# Altium footprint library Common.PcbLib: 69 footprints (part 4 of 5)
Each footprint in its own frame and in the unit in brackets; x right, y up, seen from the top. Pads: shape width x height; smd on the part's side, far side on the other; paste and mask are expansions set on the pad; w line width, h text height; cw(c..) or ccw(c..) is an arc to the next point about the centre after c.
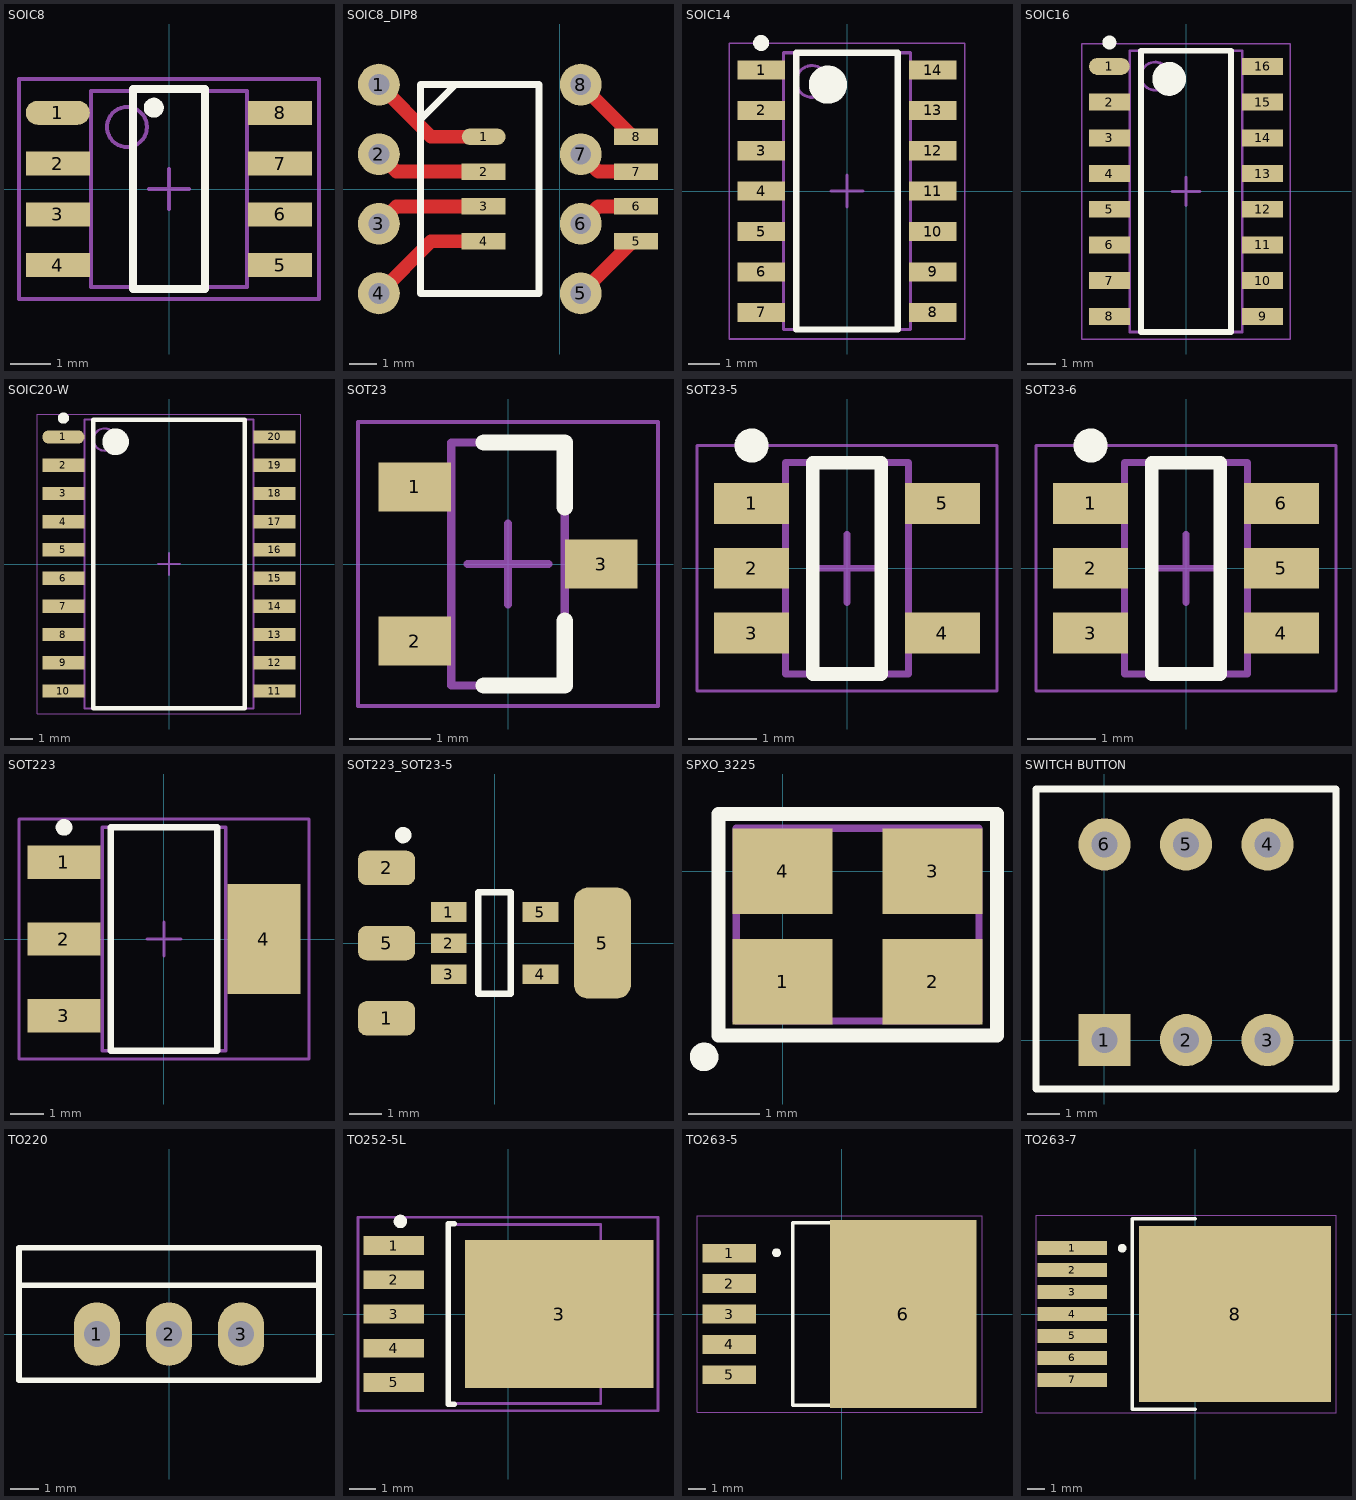
[diagram p3: the footprints below, top view; thin cyan lines are the x and y axes]

## SOIC8 [mm] "SOIC, 8-Leads, Body 4.9x3.9mm, Pitch 1.27mm, IPC Medium Density"
height 1.75
pads (8):
  oval 1.6x0.6 smd: 1(-2.781,1.905)
  rect 1.6x0.6 smd: 2(-2.781,0.635) 3(-2.781,-0.635) 4(-2.781,-1.905) 5(2.781,-1.905) 6(2.781,-0.635) 7(2.781,0.635) 8(2.781,1.905)
Top Overlay:
  circle w0.25: c-0.381,2.032 r0.125
  lines w0.2: -0.9,-2.5 -0.9,2.5 0.9,2.5 0.9,-2.5 -0.9,-2.5
Mechanical 13:
  circle w0.1: c-1.05,1.55 r0.5
  lines w0.1: -1.95,-2.45 -1.95,2.45 1.95,2.45 1.95,-2.45 -1.95,-2.45
Mechanical 15:
  lines w0.1: -0.5,0 0.5,0 ; 0,-0.5 0,0.5 ; -3.75,-2.75 -3.75,2.75 3.75,2.75 3.75,-2.75 -3.75,-2.75
3D body: height 1.75, standoff 0, extent -3,-2.45 3,2.45

## SOIC8_DIP8 [mil] "SOIC, 8-Leads, Body 4.9x3.9mm, Pitch 1.27mm, IPC Medium Density"
height 68.9
pads (16):
  round 60 hole 30: 1(-260,150) 2(-260,50) 3(-260,-50) 4(-260,-150) 5(30,-150) 6(30,-50) 7(30,50) 8(30,150)
  oval 62.99x23.62 smd: 1(-109.49,75)
  rect 62.99x23.62 smd: 2(-109.49,25) 3(-109.49,-25) 4(-109.49,-75) 5(109.49,-75) 6(109.49,-25) 7(109.49,25) 8(109.49,75)
Top Layer:
  lines w11.81: 105,-75 109.49,-75 ; 105,75 109.49,75
  lines w19.68: -260,-150 -185,-75 -109.49,-75 ; -260,-50 -235,-25 -109.49,-25 ; -260,50 -235,25 -109.49,25 ; -260,150 -185,75 -109.49,75 ; 30,-150 105,-75 109.49,-75 ; 30,-50 55,-25 109.49,-25 ; 30,50 55,25 109.49,25 ; 30,150 105,75 109.49,75
Top Overlay:
  lines w10: -200,100 -150,150 ; -200,-150 -200,150 -30,150 -30,-150 -200,-150
3D body: height 200, standoff -137.8, extent -270.47,-211.02 39.37,218.9

## SOIC14 [mm]
height 1.73
pads (14):
  rect 1.5x0.6 smd: 1(-2.7,3.81) 2(-2.7,2.54) 3(-2.7,1.27) 4(-2.7,0) 5(-2.7,-1.27) 6(-2.7,-2.54) 7(-2.7,-3.81) 8(2.7,-3.81) 9(2.7,-2.54) 10(2.7,-1.27) 11(2.7,0) 12(2.7,1.27) 13(2.7,2.54) 14(2.7,3.81)
Top Overlay:
  circle w0.25: c-2.7,4.66 r0.125
  circle w0.6: c-0.6,3.35 r0.3
  lines w0.2: -1.6,-4.35 -1.6,4.35 1.6,4.35 1.6,-4.35 -1.6,-4.35
Mechanical 13:
  circle w0.1: c-1.1,3.45 r0.5
  lines w0.1: -2,-4.35 -2,4.35 2,4.35 2,-4.35 -2,-4.35
Mechanical 15:
  lines w0.05: -3.7,-4.65 -3.7,4.65 3.7,4.65 3.7,-4.65 -3.7,-4.65
  lines w0.1: -0.5,0 0.5,0 ; 0,-0.5 0,0.5
3D body: height 1.75, standoff 0, extent -3,-4.248 2.8,4.302

## SOIC16 [mm] "SOIC, 16-Leads, Body 9.90x3.90mm, Pitch 1.27mm, IPC Medium Density"
height 1.75
pads (16):
  oval 1.45x0.6 smd: 1(-2.725,4.445)
  rect 1.45x0.6 smd: 2(-2.725,3.175) 3(-2.725,1.905) 4(-2.725,0.635) 5(-2.725,-0.635) 6(-2.725,-1.905) 7(-2.725,-3.175) 8(-2.725,-4.445) 9(2.725,-4.445) 10(2.725,-3.175) 11(2.725,-1.905) 12(2.725,-0.635) 13(2.725,0.635) 14(2.725,1.905) 15(2.725,3.175) 16(2.725,4.445)
Top Overlay:
  circle w0.25: c-2.725,5.295 r0.125
  circle w0.6: c-0.6,4 r0.3
  lines w0.2: -1.6,-5 -1.6,5 1.6,5 1.6,-5 -1.6,-5
Mechanical 13:
  circle w0.1: c-1.1,4.1 r0.5
  lines w0.1: -2,-5 -2,5 2,5 2,-5 -2,-5
Mechanical 15:
  lines w0.05: -3.7,-5.25 -3.7,5.25 3.7,5.25 3.7,-5.25 -3.7,-5.25
  lines w0.1: -0.5,0 0.5,0 ; 0,-0.5 0,0.5
3D body: height 1.4, standoff 0, extent -3.048,-4.95 2.952,4.95

## SOIC20-W [mm]
height 2.65
pads (20):
  oval 1.9x0.6 smd: 1(-4.75,5.715)
  rect 1.9x0.6 smd: 2(-4.75,4.445) 3(-4.75,3.175) 4(-4.75,1.905) 5(-4.75,0.635) 6(-4.75,-0.635) 7(-4.75,-1.905) 8(-4.75,-3.175) 9(-4.75,-4.445) 10(-4.75,-5.715) 11(4.75,-5.715) 12(4.75,-4.445) 13(4.75,-3.175) 14(4.75,-1.905) 15(4.75,-0.635) 16(4.75,0.635) 17(4.75,1.905) 18(4.75,3.175) 19(4.75,4.445) 20(4.75,5.715)
Top Overlay:
  circle w0.6: c-2.4,5.5 r0.3
  circle w0.25: c-4.75,6.565 r0.125
  lines w0.2: -3.4,-6.5 3.4,-6.5 3.4,6.5 -3.4,6.5 -3.4,-6.5
Mechanical 13:
  circle w0.1: c-2.9,5.6 r0.5
  lines w0.1: -3.8,-6.5 3.8,-6.5 3.8,6.5 -3.8,6.5 -3.8,-6.5
Mechanical 15:
  lines w0.05: -5.925,-6.75 5.925,-6.75 5.925,6.75 -5.925,6.75 -5.925,-6.75
  lines w0.1: -0.5,0 0.5,0 ; 0,-0.5 0,0.5
3D body: height 2.7, standoff 0, extent -5.15,-6.4 5.15,6.4

## SOT23 [mm] "SOT23, 3-Leads, Body 2.90x2.30mm, Pitch 0.95mm, IPC Medium Density"
height 1.1
pads (3):
  rect 0.9x0.6 smd: 1(-1.15,0.95) 2(-1.15,-0.95) 3(1.15,0)
Top Overlay:
  lines w0.2: -0.3,-1.5 0.7,-1.5 0.7,-0.7 ; -0.3,1.5 0.7,1.5 0.7,0.7
Mechanical 13:
  lines w0.1: -0.7,-1.5 -0.7,1.5 0.7,1.5 0.7,-1.5 -0.7,-1.5
Mechanical 15:
  lines w0.05: -1.85,-1.75 -1.85,1.75 1.85,1.75 1.85,-1.75 -1.85,-1.75
  lines w0.1: -0.5,0 0.5,0 ; 0,-0.5 0,0.5
3D body: height 1.1, standoff 0.05, extent -0.7,-1.5 0.7,1.5

## SOT23-5 [mm]
height 1.45
pads (5):
  rect 1.1x0.6 smd: 1(-1.4,0.95) 2(-1.4,0) 3(-1.4,-0.95) 4(1.4,-0.95) 5(1.4,0.95)
Top Overlay:
  circle w0.25: c-1.4,1.8 r0.125
  lines w0.2: -0.5,-1.55 -0.5,1.55 0.5,1.55 0.5,-1.55 -0.5,-1.55
Mechanical 13:
  lines w0.1: -0.9,-1.55 0.9,-1.55 0.9,1.55 -0.9,1.55 -0.9,-1.55
Mechanical 15:
  lines w0.05: -2.2,-1.8 2.2,-1.8 2.2,1.8 -2.2,1.8 -2.2,-1.8
  lines w0.1: -0.5,0 0.5,0 ; 0,-0.5 0,0.5
3D body: height 1.45, standoff 0, extent -1.4,-1.45 1.4,1.45

## SOT23-6 [mm]
height 1.45
pads (6):
  rect 1.1x0.6 smd: 1(-1.4,0.95) 2(-1.4,0) 3(-1.4,-0.95) 4(1.4,-0.95) 5(1.4,0) 6(1.4,0.95)
Top Overlay:
  circle w0.25: c-1.4,1.8 r0.125
  lines w0.2: -0.5,-1.55 0.5,-1.55 0.5,1.55 -0.5,1.55 -0.5,-1.55
Mechanical 13:
  lines w0.1: -0.9,-1.55 -0.9,1.55 0.9,1.55 0.9,-1.55 -0.9,-1.55
Mechanical 15:
  lines w0.05: -2.2,-1.8 -2.2,1.8 2.2,1.8 2.2,-1.8 -2.2,-1.8
  lines w0.1: -0.5,0 0.5,0 ; 0,-0.5 0,0.5
3D body: height 1.45, standoff 0, extent -1.4,-1.45 1.4,1.45

## SOT223 [mm]
height 1.8
pads (4):
  rect 2.2x1 smd: 1(-3,2.3) 2(-3,0) 3(-3,-2.3)
  rect 2.2x3.3 smd: 4(3,0)
Top Overlay:
  circle w0.25: c-3,3.35 r0.125
  lines w0.2: -1.6,-3.35 1.6,-3.35 1.6,3.35 -1.6,3.35 -1.6,-3.35
Mechanical 13:
  lines w0.1: -1.85,-3.35 1.85,-3.35 1.85,3.35 -1.85,3.35 -1.85,-3.35
Mechanical 15:
  lines w0.1: -0.5,0 0.5,0 ; 0,-0.5 0,0.5 ; -4.35,-3.6 4.35,-3.6 4.35,3.6 -4.35,3.6 -4.35,-3.6
3D body: height 1.8, standoff 0, extent -1.85,-3.35 1.85,3.35

## SOT223_SOT23-5 [mm]
height 1.45
pads (9):
  rrect50% 1.75x1.05 smd: 1(-3.3,-2.3) 2(-3.3,2.3) 5(-3.3,0)
  rect 1.1x0.6 smd: 1(-1.4,0.95) 2(-1.4,0) 3(-1.4,-0.95) 4(1.4,-0.95) 5(1.4,0.95)
  rrect50% 1.75x3.4 smd: 5(3.3,0)
Top Overlay:
  circle w0.25: c-2.794,3.302 r0.125
  lines w0.2: -0.5,-1.55 0.5,-1.55 0.5,1.55 -0.5,1.55 -0.5,-1.55
3D body: height 1.45, standoff 0, extent -1.4,-1.45 1.4,1.45
3D body: height 1.8, standoff 0, extent -1.85,-3.35 1.85,3.35

## SPXO_3225 [mm]
height 1.05
pads (4):
  rect 1.4x1.2 smd: 1(0,-1.55) 2(2.1,-1.55) 3(2.1,0) 4(0,0)
Top Overlay:
  lines w0.2: -1.001,-2.589 ccw(c-1.1,-2.6) -1,-2.6 ; -0.9,-2.3 -0.9,0.8 3,0.8 3,-2.3 -0.9,-2.3
Mechanical 1:
  lines w0.1: -0.65,-2.1 -0.65,0.6 2.75,0.6 2.75,-2.1 -0.65,-2.1
3D body: height 1.05, standoff 0, extent -0.649,-2.099 2.749,0.599

## SWITCH BUTTON [mm]
height 14
pads (6):
  rect 1.6x1.6 hole 0.8: 1(0,0)
  round 1.6 hole 0.8: 2(2.5,0) 3(5,0) 4(5,6) 5(2.5,6) 6(0,6)
Top Overlay:
  lines w0.2: -2.1,-1.5 -2.1,7.7 7.1,7.7 7.1,-1.5 -2.1,-1.5
3D body: height 15.1, standoff -3.6, extent -1.996,-1.396 7,7.6

## TO220 [mm]
height 20
pads (3):
  oval 1.6x2.2 hole 0.9: 1(-2.5,0) 2(0,0) 3(2.5,0)
Top Overlay:
  lines w0.2: -5.2,1.7 5.2,1.7 ; -5.2,-1.6 5.2,-1.6 5.2,3 -5.2,3 -5.2,-1.6
3D body: height 19.56, standoff -9.24, extent -5.1,-1.75 5.1,2.75

## TO252-5L [mm] "TO252-5L, IPC Medium Density"
height 5.7
pads (6):
  rect 2.25x0.7 smd: 1(-4.25,2.54) 2(-4.25,1.27) 3(-4.25,0) 4(-4.25,-1.27) 5(-4.25,-2.54)
  rect 7x5.5 smd: 3(1.9,0)
Top Overlay:
  circle w0.25: c-4,3.44 r0.125
  lines w0.2: -2,-3.35 -2.225,-3.35 -2.225,3.35 -2,3.35
Mechanical 13:
  lines w0.1: -2.25,-3.325 -2.25,3.325 3.45,3.325 3.45,-3.325 -2.25,-3.325
Mechanical 15:
  lines w0.1: -0.5,0 0.5,0 ; 0,-0.5 0,0.5 ; -5.575,-3.6 -5.575,3.6 5.575,3.6 5.575,-3.6 -5.575,-3.6
3D body: height 5.7, standoff 0, extent -2.25,-3.325 3.45,3.325

## TO263-5 [mm]
height 4.57
pads (6):
  rect 3x1.05 smd: 1(-6.3,3.4) 2(-6.3,1.7) 3(-6.3,0) 4(-6.3,-1.7) 5(-6.3,-3.4)
  rect 8.2x10.5 smd: 6(3.429,0)
Top Overlay:
  circle w0.25: c-3.65,3.425 r0.125
  lines w0.2: 0,-5.1 -2.75,-5.1 -2.75,5.1 0,5.1
Mechanical 13:
  lines w0.1: -2.75,-5.075 -2.75,5.075 5.89,5.075 5.89,-5.075 -2.75,-5.075
Mechanical 15:
  lines w0.05: -8.1,-5.5 -8.1,5.5 7.85,5.5 7.85,-5.5 -8.1,-5.5
  lines w0.1: -0.5,0 0.5,0 ; 0,-0.5 0,0.5
3D body: height 4.57, standoff -0.01, extent -7.32,-5.1 7.32,5.06

## TO263-7 [mm]
height 4.4
pads (8):
  rect 4x0.8 smd: 1(-7.1,3.81) 2(-7.1,2.54) 3(-7.1,1.27) 4(-7.1,0) 5(-7.1,-1.27) 6(-7.1,-2.54) 7(-7.1,-3.81)
  rect 11.1x10.15 smd: 8(2.3,0)
Top Overlay:
  lines w0.2: 0,-5.5 -3.65,-5.5 -3.65,5.5 0,5.5
  lines w0.25: -4.1,3.794 cw(c-4.225,3.794) -4.1,3.8
Mechanical 15:
  lines w0.05: -9.2,-5.7 -9.2,5.7 8.125,5.7 8.125,-5.7 -9.2,-5.7
  lines w0.1: -0.5,0 0.5,0 ; 0,-0.5 0,0.5
3D body: height 4.78, standoff -0.02, extent -8.035,-5 7.635,5